# Altium footprint library PT_2PIN_SMD.PcbLib: 1 footprints
Each footprint in its own frame and in the unit in brackets; x right, y up, seen from the top. Pads: shape width x height; smd on the part's side, far side on the other; paste and mask are expansions set on the pad; w line width, h text height; cw(c..) or ccw(c..) is an arc to the next point about the centre after c.
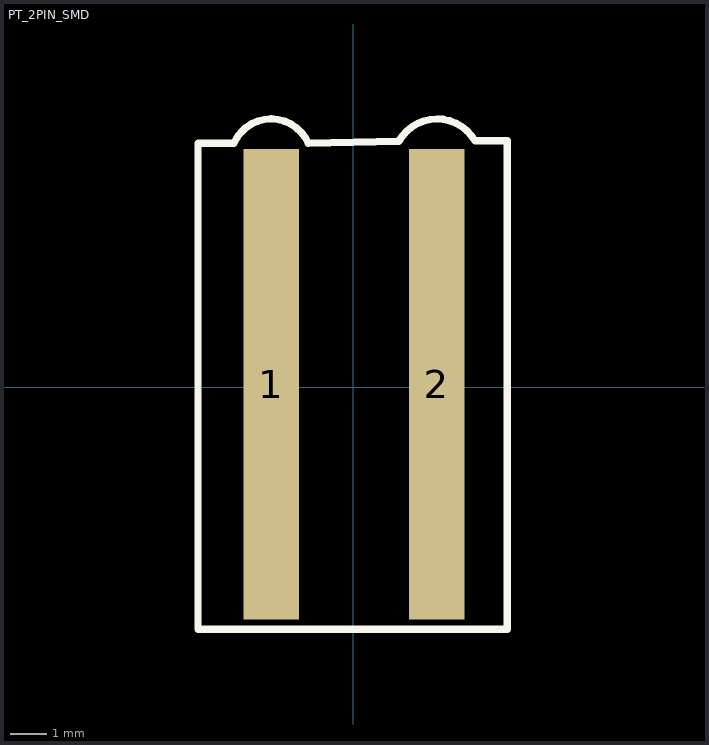
[diagram p0: the footprint, top view; thin cyan lines are the x and y axes]

## PT_2PIN_SMD [mm]
pads (2):
  rect 1.5x12.8 smd: 1(-2.225,0.076) 2(2.275,0.076)
Top Overlay:
  lines w0.2: 4.191,6.68 4.191,-6.579 -4.216,-6.579 -4.216,6.629 -3.238,6.629 cw(c-2.229,6.19) -1.219,6.629 1.245,6.68 cw(c2.283,6.101) 3.315,6.693 4.191,6.693
3D body "PT_2_Pin_2.5.x_t": height 4.78, standoff 0.01, extent -4,-6.25 4,7